# Altium footprint library PCB - POWER INDUCTORS - SRR1280.PcbLib: 1 footprints
Each footprint in its own frame and in the unit in brackets; x right, y up, seen from the top. Pads: shape width x height; smd on the part's side, far side on the other; paste and mask are expansions set on the pad; w line width, h text height; cw(c..) or ccw(c..) is an arc to the next point about the centre after c.
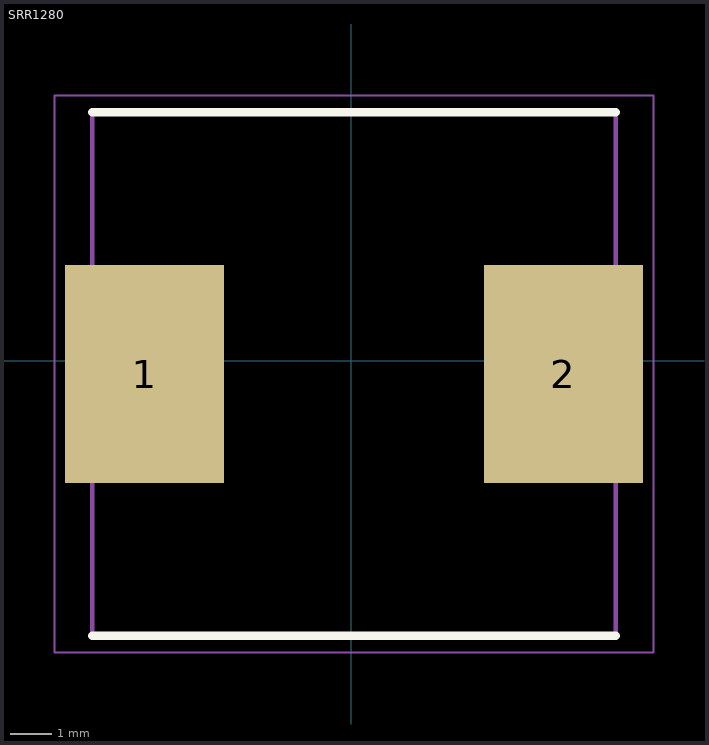
[diagram p0: the footprint, top view; thin cyan lines are the x and y axes]

## SRR1280 [mil]
pads (2):
  rect 149.61x204.72 smd paste+0 mask+2: 1(-194.2,-12.45) 2(199.5,-12.45)
Top Overlay:
  lines w7.87: -243.41,-258.51 248.71,-258.51 ; -243.41,233.61 248.71,233.61
Mechanical 15:
  lines w3.94: -243.41,-258.51 248.71,-258.51 248.71,233.61 -243.41,233.61 -243.41,-258.51
Mechanical 29:
  lines w1.97: -278.85,-274.26 284.15,-274.26 284.15,249.36 -278.85,249.36 -278.85,-274.26
  text "'.Designator'" at -65,-35 h60
3D body "srr1208.stp": height 336.61, standoff 1.97, extent -245,-260 255,240